# Altium footprint library PcbLib.PcbLib: 285 footprints (part 16 of 18)
Each footprint in its own frame and in the unit in brackets; x right, y up, seen from the top. Pads: shape width x height; smd on the part's side, far side on the other; paste and mask are expansions set on the pad; w line width, h text height; cw(c..) or ccw(c..) is an arc to the next point about the centre after c.
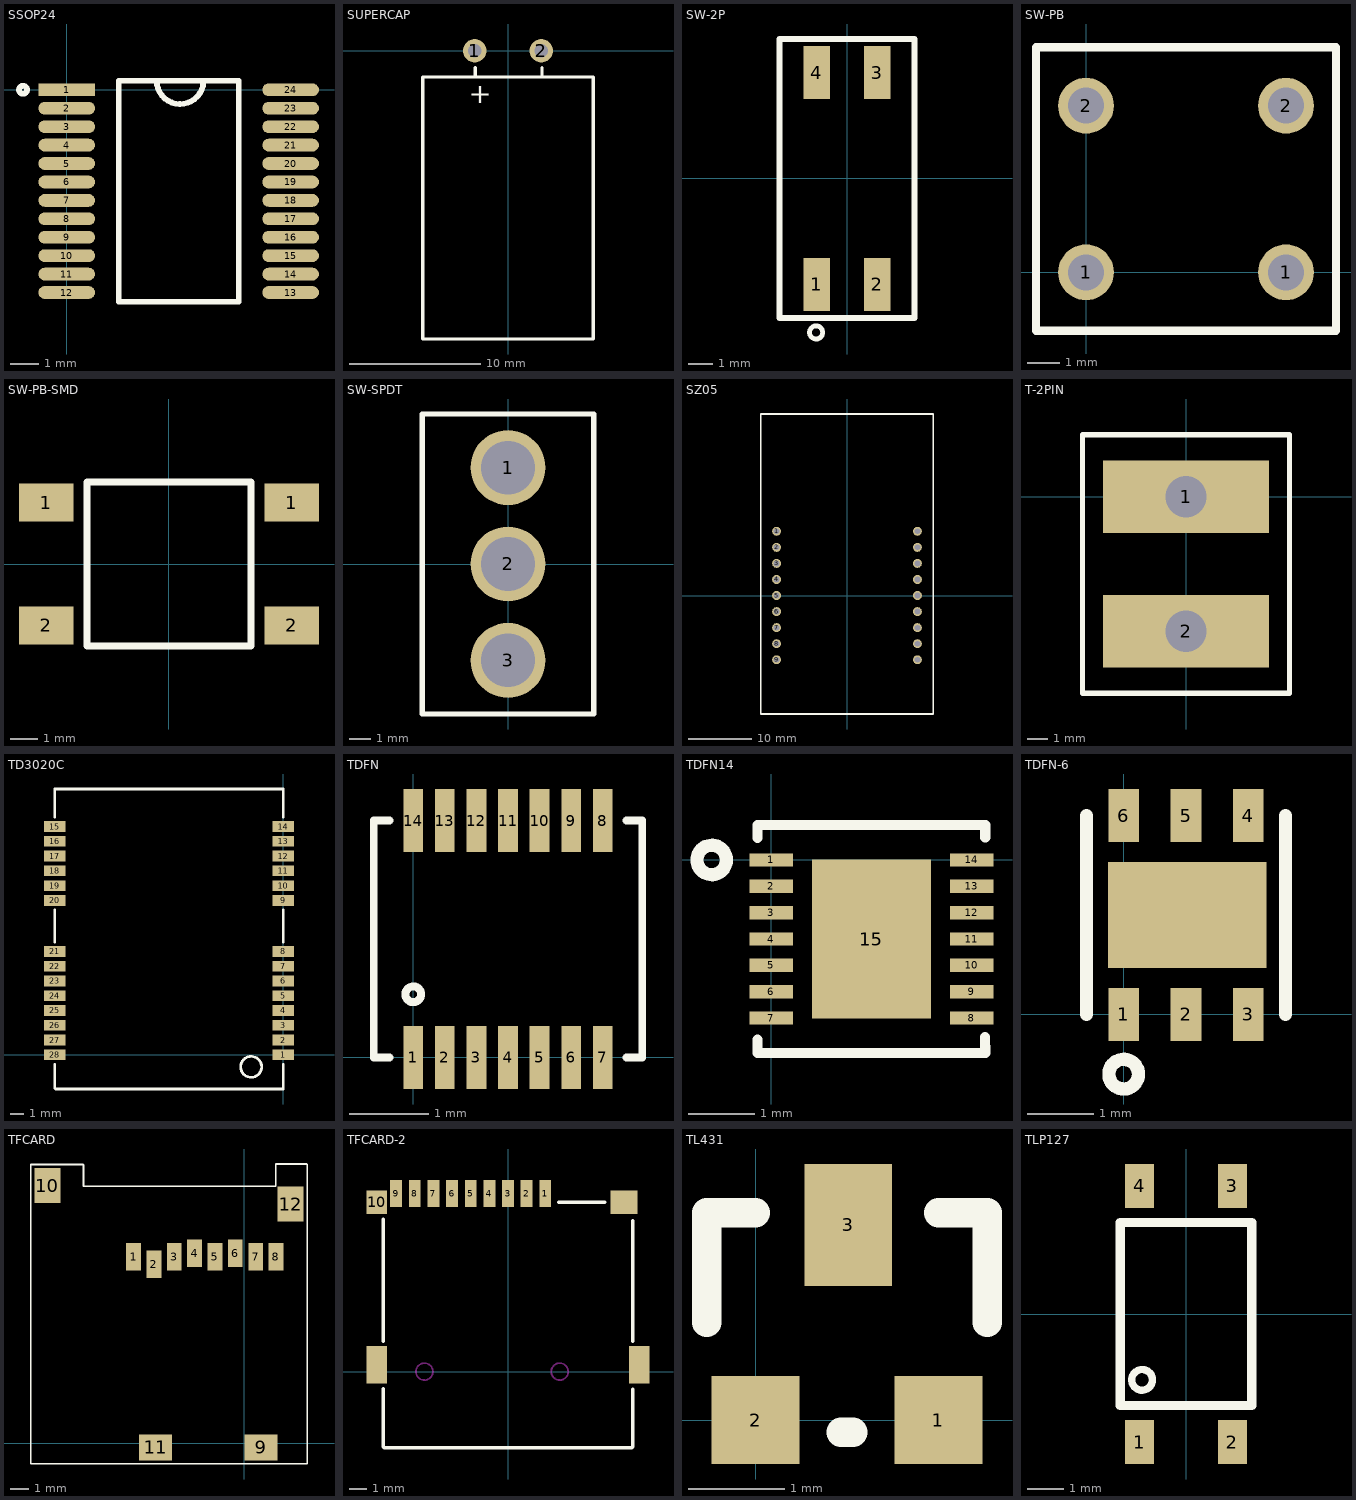
[diagram p15: the footprints below, top view; thin cyan lines are the x and y axes]

## SSOP24 [mm]
pads (24):
  rect 2x0.45 smd: 1(0,0)
  oval 2x0.45 smd: 2(0,-0.65) 3(0,-1.3) 4(0,-1.95) 5(0,-2.6) 6(0,-3.25) 7(0,-3.9) 8(0,-4.55) 9(0,-5.2) 10(0,-5.85) 11(0,-6.5) 12(0,-7.15) 13(7.9,-7.15) 14(7.9,-6.5) 15(7.9,-5.85) 16(7.9,-5.2) 17(7.9,-4.55) 18(7.9,-3.9) 19(7.9,-3.25) 20(7.9,-2.6) 21(7.9,-1.95) 22(7.9,-1.3) 23(7.9,-0.65) 24(7.9,0)
Top Overlay:
  circle w0.2: c-1.541,0 r0.141
  lines w0.2: 3.172,0.325 ccw(c4,0.325) 4.827,0.291 ; 3.5,0.325 5.1,0.325 ; 3.788,0.325 1.835,0.325 1.835,-7.475 6.065,-7.475 6.065,0.325 4.112,0.325

## SUPERCAP [mm]
pads (2):
  round 1.8 hole 1: 1(-2.54,0) 2(2.54,0)
Top Overlay:
  lines w0.254: -2.5,-2 -2.5,-1.3 ; 2.6,-1.9 2.6,-1.3 ; -6.5,-22 -6.5,-2 6.5,-2 6.5,-22 -6.5,-22
  text "+" at -3,-4 h1.52

## SW-2P [mm]
pads (4):
  rect 1.1x2.2 smd: 1(-1.25,-4.4) 2(1.25,-4.4) 3(1.25,4.4) 4(-1.25,4.4)
Top Overlay:
  circle w0.2: c-1.283,-6.4 r0.273
  lines w0.254: 2.8,-5.8 2.8,0 2.8,5.8 2.15,5.8 -2.15,5.8 -2.8,5.8 -2.8,0 -2.8,-5.8 -2.15,-5.8 2.15,-5.8 2.8,-5.8 ; 2.8,-5.8 2.8,-5.8

## SW-PB [mm]
pads (4):
  round 1.7 hole 1.1: 1(0,0) 1(6.096,0) 2(0,5.08) 2(6.096,5.08)
Top Overlay:
  lines w0.254: -1.524,-1.778 7.62,-1.778 7.62,6.858 -1.524,6.858 -1.524,-1.778

## SW-PB-SMD [mm]
pads (4):
  rect 2x1.4 smd: 1(-4.5,2.25) 1(4.5,2.25) 2(-4.5,-2.25) 2(4.5,-2.25)
Top Overlay:
  lines w0.254: -3,-3 3,-3 3,3 -3,3 -3,-3

## SW-SPDT [mm]
pads (3):
  round 3.5 hole 2.5: 1(0,4.5) 2(0,0) 3(0,-4.5)
Top Overlay:
  lines w0.254: -4,-7 4,-7 4,7 -4,7 -4,-7

## SZ05 [mm]
pads (18):
  round 1.4 hole 0.9: 1(-11.15,10.16) 2(-11.15,7.62) 3(-11.15,5.08) 4(-11.15,2.54) 5(-11.15,0) 6(-11.15,-2.54) 7(-11.15,-5.08) 8(-11.15,-7.62) 9(-11.15,-10.16) 10(11.15,-10.16) 11(11.15,-7.62) 12(11.15,-5.08) 13(11.15,-2.54) 14(11.15,0) 15(11.15,2.54) 16(11.15,5.08) 17(11.15,7.62) 18(11.15,10.16)
Top Overlay:
  lines w0.254: -13.65,-18.76 13.65,-18.76 13.65,28.74 -13.65,28.74 -13.65,-10.16 -13.65,-18.76

## T-2PIN [mm]
pads (2):
  rect 8x3.5 hole 2: 1(0,0) 2(0,-6.5)
Top Overlay:
  lines w0.254: -5,-9.5 -5,3 5,3 5,-9.5 -5,-9.5

## TD3020C [mm]
pads (28):
  rect 1.6x0.8 smd: 1(0,0) 2(0,1.1) 3(0,2.2) 4(0,3.3) 5(0,4.4) 6(0,5.5) 7(0,6.6) 8(0,7.7) 9(0,11.5) 10(0,12.6) 11(0,13.7) 12(0,14.8) 13(0,15.9) 14(0,17) 15(-17,17) 16(-17,15.9) 17(-17,14.8) 18(-17,13.7) 19(-17,12.6) 20(-17,11.5) 21(-17,7.7) 22(-17,6.6) 23(-17,5.5) 24(-17,4.4) 25(-17,3.3) 26(-17,2.2) 27(-17,1.1) 28(-17,0)
Top Overlay:
  circle w0.2: c-2.381,-0.9 r0.781
  lines w0.2: -17,-0.7 -17,-2.5 -16.95,-2.55 0,-2.55 0,-0.7 ; -17,8.4 -17,10.8 ; -17,17.7 -17,19.8 0,19.8 0,17.7 ; 0,8.4 0,10.8

## TDFN [mm]
pads (14):
  rect 0.25x0.8 smd: 1(0,0) 2(0.4,0) 3(0.8,0) 4(1.2,0) 5(1.6,0) 6(2,0) 7(2.4,0) 8(2.4,3) 9(2,3) 10(1.6,3) 11(1.2,3) 12(0.8,3) 13(0.4,3) 14(0,3)
Top Overlay:
  circle w0.1: c0,0.8 r0.1
  lines w0.1: -0.3,0 -0.5,0 -0.5,3 -0.3,3 ; 2.7,0 2.9,0 2.9,3 2.7,3

## TDFN14 [mil]
pads (15):
  rect 26x8 smd: 1(0,0) 2(0,-15.74) 3(0,-31.49) 4(0,-47.24) 5(0,-62.99) 6(0,-78.74) 7(0,-94.48) 8(120.08,-94.48) 9(120.08,-78.74) 10(120.08,-62.99) 11(120.08,-47.24) 12(120.08,-31.49) 13(120.08,-15.74) 14(120.08,0)
  rect 71x95 smd: 15(60.04,-47.24)
Top Overlay:
  circle w7.87: c-35.43,0 r8.8
  lines w6: -7.98,-107.39 -7.98,-115.26 128.06,-115.26 128.03,-105.87 ; -7.98,13.26 -7.98,20.78 128.06,20.78 128.06,13.48
Top Paste:
  pour cut-out: 33.47,-9 56.71,-9 56.71,-42.42 33.47,-42.42
  pour cut-out: 62.87,-9 86.11,-9 86.11,-42.42 62.87,-42.42
  pour cut-out: 33.47,-51.81 56.71,-51.81 56.71,-85.23 33.47,-85.23
  pour cut-out: 62.87,-51.81 86.11,-51.81 86.11,-85.23 62.87,-85.23
Top Solder:
  pour cut-out: -15.06,6.06 -15.06,-100.48 15,-100.48 15,6.06
  pour cut-out: 105.08,6.03 105.08,-100.48 135.08,-100.48 135.08,6.03

## TDFN-6 [mm]
pads (7):
  rect 0.46x0.8 smd: 1(0,0) 2(0.94,0) 3(1.88,0) 4(1.88,3) 5(0.94,3) 6(0,3)
  rect 2.39x1.6 smd: ""(0.96,1.5)
Top Overlay:
  circle w0.2: c0,-0.9 r0.224
  lines w0.2: -0.56,0 -0.56,3 ; 2.44,0 2.44,3

## TFCARD [mm]
pads (12):
  rect 0.8x1.5 smd: 1(-5.99,10.08) 2(-4.89,9.68) 3(-3.79,10.08) 4(-2.69,10.28) 5(-1.59,10.08) 6(-0.49,10.28) 7(0.61,10.08) 8(1.71,10.08)
  rect 1.8x1.4 smd: 9(0.9,-0.22) 11(-4.8,-0.22)
  rect 1.4x1.9 smd: 10(-10.65,13.93) 12(2.5,12.93)
Top Overlay:
  lines w0.1: -11.55,-1.11 -11.55,15.07 -8.73,15.07 -8.7,15.04 -8.7,13.9 1.7,13.9 1.7,15.1 3.37,15.1 3.4,15.07 3.4,-1.11 -10.08,-1.11 -11.55,-1.11

## TFCARD-2 [mm]
pads (13):
  rect 0.7x1.6 smd: 1(2.2,10.5) 2(1.1,10.5) 3(0,10.5) 4(-1.1,10.5) 5(-2.2,10.5) 6(-3.3,10.5) 7(-4.4,10.5) 8(-5.5,10.5) 9(-6.6,10.5)
  rect 1.2x1.4 smd: 10(-7.75,10)
  rect 1.2x2.2 smd: ""(-7.75,0.4)
  rect 1.6x1.4 smd: ""(6.85,10)
  rect 1.2x2.2 smd paste+0: ""(7.75,0.4)
Top Overlay:
  lines w0.2: -7.35,-1 -7.35,-4.45 -7.3,-4.5 7.3,-4.5 7.35,-4.45 7.35,-1.05 ; -7.35,1.8 -7.35,9 ; 3,10 5.7,10 ; 7.35,1.8 7.35,8.9
Keep-Out Layer:
  circle w0.1: c-4.93,0 r0.5
  circle w0.1: c3.05,0 r0.5

## TL431 [mil]
pads (3):
  rect 36x36 smd: 1(75,0) 2(0,0)
  rect 36x50 smd: 3(38,80)
Top Overlay:
  lines w12: -20,40 -20,85 0,85 ; 35,-5 40,-5 ; 75,85 95,85 95,40

## TLP127 [mm]
pads (4):
  rect 0.8x1.2 smd: 1(-1.27,-3.5) 2(1.27,-3.5) 3(1.27,3.5) 4(-1.27,3.5)
Top Overlay:
  circle w0.2: c-1.2,-1.8 r0.283
  lines w0.254: 1.8,0 1.8,2.5 -1.8,2.5 -1.8,-2.5 1.8,-2.5 1.8,0.2